# EAGLE library part LSK389-X- (library transistor-fet)
N-Channel JFET Monolithic Dual, Ultra Low Noise
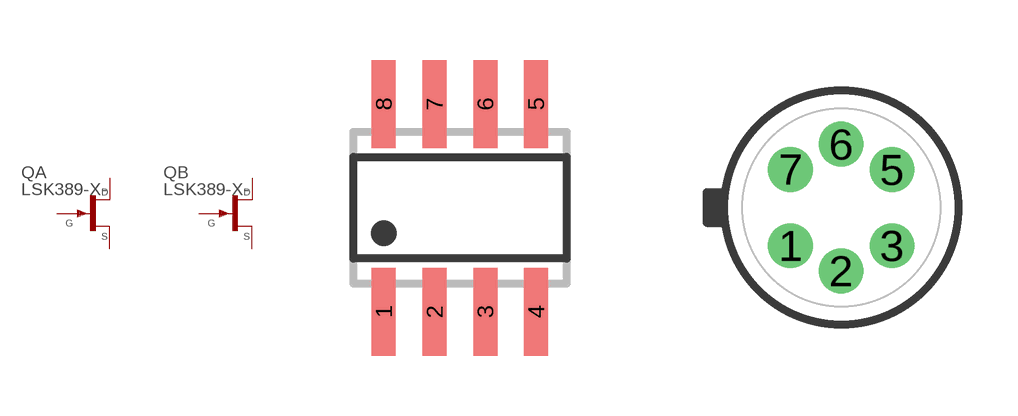
[diagram p5: symbol with the pads of SO08; footprints SO08, TO71]

Designator prefix Q; gates A=JFET-N B=JFET-N

## LSK389-X-SOIC-8  [SO08]
1  A:S  pas
2  A:D  pas
4  A:G  pas
5  B:S  pas
6  B:D  pas
8  B:G  pas

## LSK389-X-71  [TO71]
1  A:S  pas
2  A:D  pas
3  A:G  pas
5  B:S  pas
6  B:D  pas
7  B:G  pas

## Footprint SO08 (pad centres in mm)
SMALL OUTLINE INTEGRATED CIRCUIT body 3.9 mm/JEDEC MS-012AA
smd 0.6 x 2.2: 1 -1.905,-2.6; 2 -0.635,-2.6; 3 0.635,-2.6; 4 1.905,-2.6; 5 1.905,2.6; 6 0.635,2.6; 7 -0.635,2.6; 8 -1.905,2.6

## Footprint TO71 (pad centres in mm)
Metal Can Package
drill 0.61: 1 -1.27,-0.953; 2 0,-1.587; 3 1.27,-0.953; 5 1.27,0.953; 6 0,1.587; 7 -1.27,0.953